# Altium schematic symbol library Suppressor_Unidirect.SchLib: 1 symbol
Pins are listed as number, name and electrical type; pins without a type are passive.

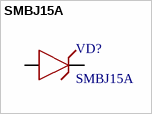
[diagram p0: symbol SMBJ15A]

## SMBJ15A
designator VD?
footprint DO-214AA
footprint SOD-323
pins: 1 A, 2 C